# EAGLE library part TCD1304AP (library IRIS)
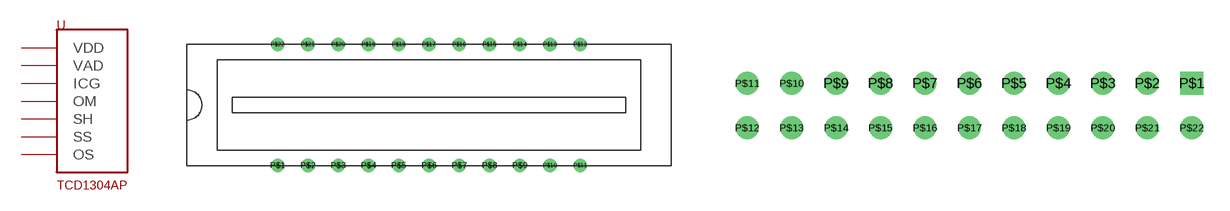
[diagram p0: symbol with the pads of TCD1304AP; footprints TCD1304AP, ILX511]

Designator prefix -

## TCD1304AP  [TCD1304AP]
P$1  VDD
P$2  VAD
P$3  ICG
P$4  OM
P$5  SH
P$21  OS
P$22  SS

## TCD1304APA  [ILX511]
Pads as for TCD1304AP

## Footprint TCD1304AP (pad centres in mm)
drill 0.6: P$1 -12.7,-5.08; P$2 -10.16,-5.08; P$3 -7.62,-5.08; P$4 -5.08,-5.08; P$5 -2.54,-5.08; P$6 0,-5.08; P$7 2.54,-5.08; P$8 5.08,-5.08; P$9 7.62,-5.08; P$10 10.16,-5.08; P$11 12.7,-5.08; P$12 12.7,5.08; P$13 10.16,5.08; P$14 7.62,5.08; P$15 5.08,5.08; P$16 2.54,5.08; P$17 0,5.08; P$18 -2.54,5.08; P$19 -5.08,5.08; P$20 -7.62,5.08; P$21 -10.16,5.08; P$22 -12.7,5.08

## Footprint ILX511 (pad centres in mm)
drill 0.8 square: P$1 0,0
drill 0.8: P$2 -2.54,0; P$3 -5.08,0; P$4 -7.62,0; P$5 -10.16,0; P$6 -12.7,0; P$7 -15.24,0; P$8 -17.78,0; P$9 -20.32,0; P$10 -22.86,0; P$11 -25.4,0; P$12 -25.4,-2.54; P$13 -22.86,-2.54; P$14 -20.32,-2.54; P$15 -17.78,-2.54; P$16 -15.24,-2.54; P$17 -12.7,-2.54; P$18 -10.16,-2.54; P$19 -7.62,-2.54; P$20 -5.08,-2.54; P$21 -2.54,-2.54; P$22 0,-2.54